# Altium footprint library XCVR_NRF24L01P-MODULE-PCB.PcbLib: 1 footprints
Each footprint in its own frame and in the unit in brackets; x right, y up, seen from the top. Pads: shape width x height; smd on the part's side, far side on the other; paste and mask are expansions set on the pad; w line width, h text height; cw(c..) or ccw(c..) is an arc to the next point about the centre after c.
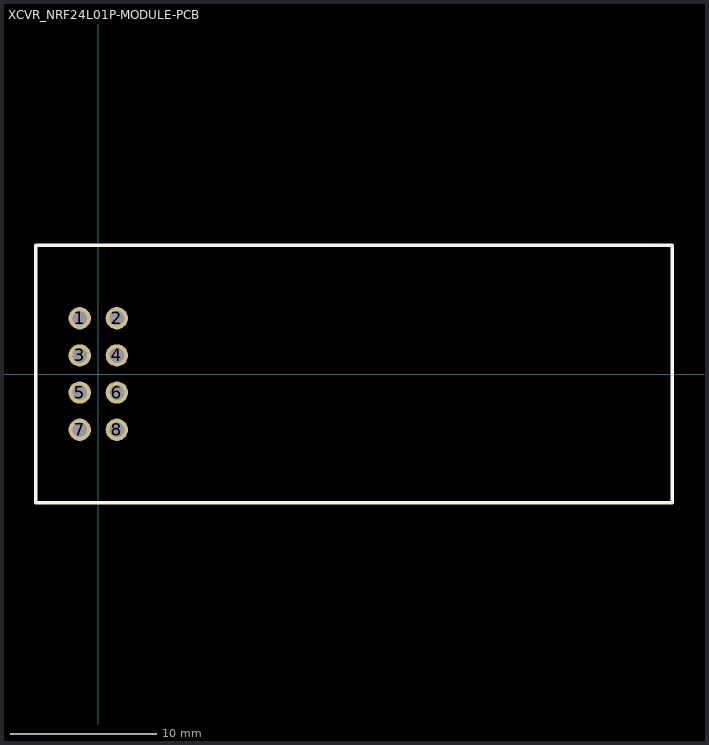
[diagram p0: the footprint, top view; thin cyan lines are the x and y axes]

## XCVR_NRF24L01P-MODULE-PCB [mil]
pads (8):
  round 60 hole 40: 1(-50,150) 2(50,150) 3(-50,50) 4(50,50) 5(-50,-50) 6(50,-50) 7(-50,-150) 8(50,-150)
Top Overlay:
  lines w10: -168.11,-346.85 -168.11,-164.96 -168.11,150 -168.11,346.85 -50,346.85 1544.49,346.85 1544.49,-346.85 -50,-346.85 -168.11,-346.85